# Altium schematic symbol library OXI_ONE.SchLib: 92 symbols (part 1 of 3)
Pins are listed as number, name and electrical type; pins without a type are passive.

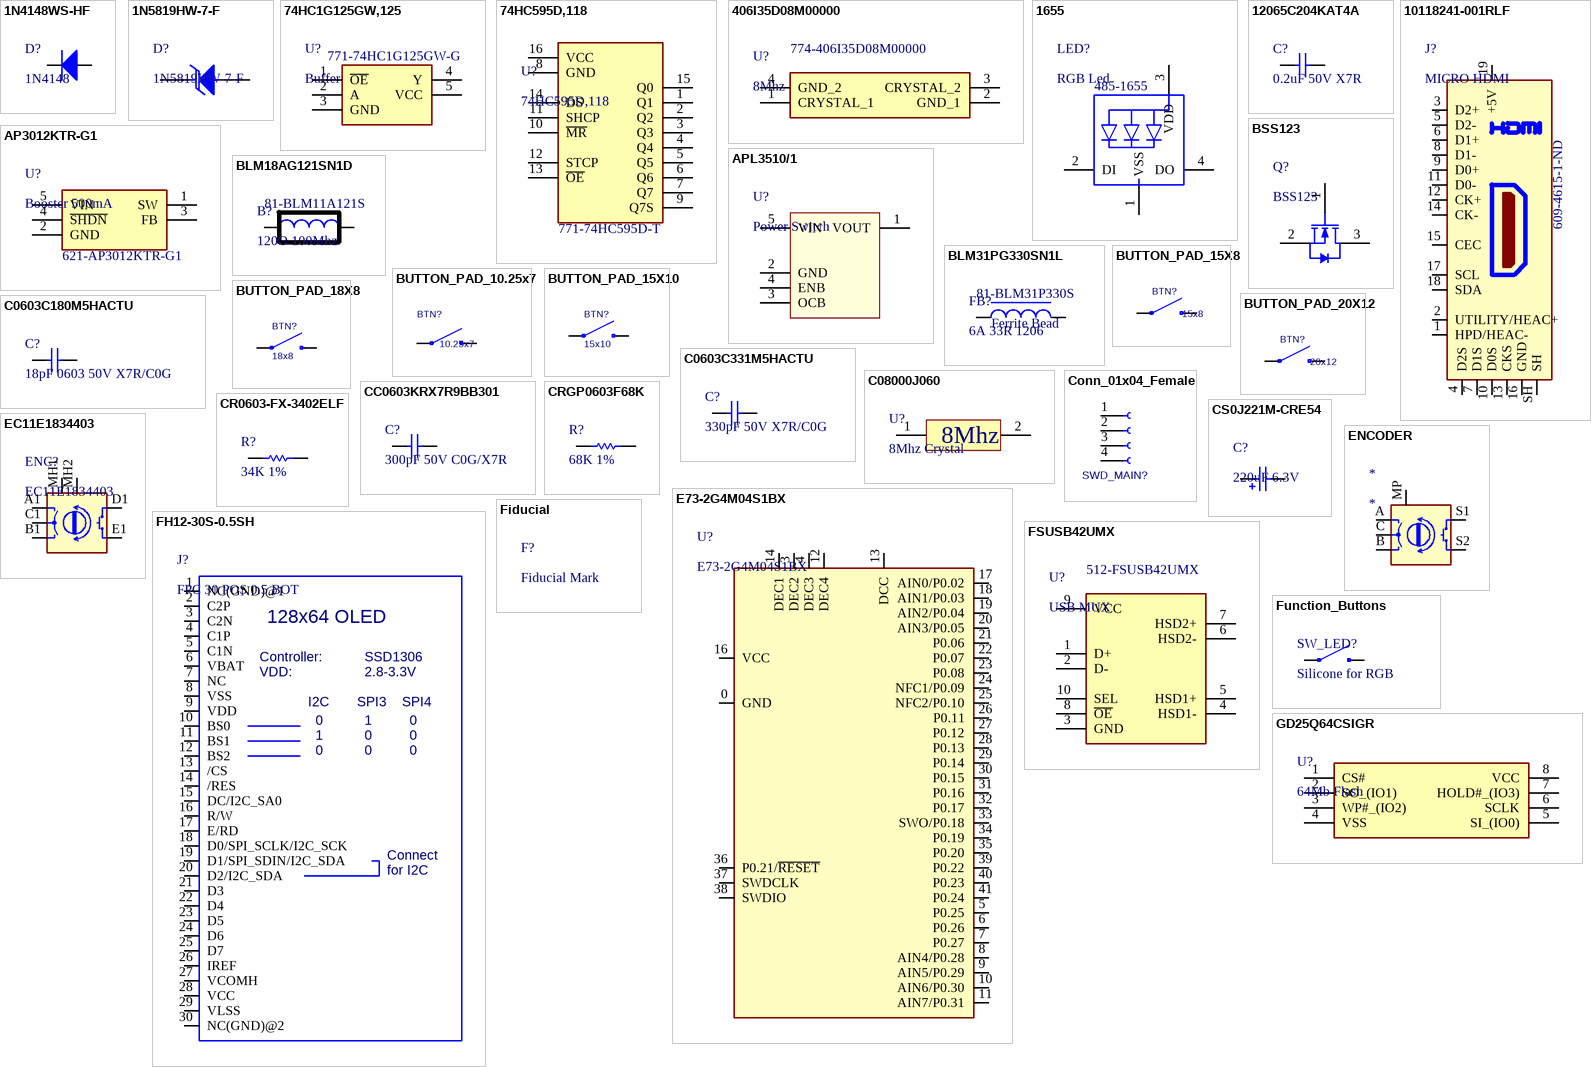
[diagram p0: symbols 1N4148WS-HF to GD25Q64CSIGR]

## 1N4148WS-HF
designator D?, comment 1N4148
Diodos: de propósito general, potencia y conmutación DIODE SWITCHING 100V 150mA 200mW SOD-323; Manufacturer: Comchip; Manufacturer Part Number: 1N4148WS-HF; Supplier 1: Mouser; RoHS: Yes; Stock 1: 4788; Pricing 1: 1=0,18000, 10=0,14900, 50=0,14900, 100=0,05700, 1000=0,03600, 10000=0,02300 (USD); Supplier Part Number 1: 750-1N4148WS-HF
footprint SOD2613X100N
pins: 1 K, 2 A

## 1N5819HW-7-F
designator D?
DIODES INC. - 1N5819HW-7-F - DIODE, SCKY RECTI, 1A, 40V, SOD123; Forward Voltage: 450mV; Max Reverse Current: 50uA; Element Configuration: Single; Max Forward Surge Current (Ifsm): 25A; Max Power Dissipation: 450mW; Polarity: Standard; Capacitance: 110pF; Supplier 1: Mouser; Manufacturer: Diodes; Manufacturer Part Number: 1N5819HW-7-F; RoHS: Yes; Category: Schottky Diodes; Case/Package: SOD-123-2; Number of Pins: 2; Weight: 0.000353oz; Contact Plating: Tin,Matte; Min Operating Temperature: -65°C; Max Operating Temperature: 125°C; Forward Current: 1A; Max Repetitive Reverse Voltage (Vrrm): 40V; Packaging: Tape and Reel; Peak Non-Repetitive Surge Current: 25A; Package Quantity: 3000; Average Rectified Current: 1A; Termination: SMD/SMT; Voltage Rating (DC): 40V; Current Rating: 1A; Output Current: 1A; Max Reverse Voltage (DC): 40V; Series: -; Length: 2.85mm; Width: 1.7mm; Height: 1.25mm; Radiation Hardening: No; RoHS Compliant: Yes; REACH SVHC: No SVHC; Lead Free: Lead Free; ComponentLink1URL: https://datasheet.ciiva.com/16303/ds30217-16303296.pdf?src-supplier=Future+Electronics; ComponentLink1Description: https://datasheet.ciiva.com/16303/ds30217-16303296.pdf?src-supplier=Future+Electronics; ComponentLink2URL: https://datasheet.ciiva.com/27092/1538419-27092484.pdf?src-supplier=Jameco; ComponentLink2Description: https://datasheet.ciiva.com/27092/1538419-27092484.pdf?src-supplier=Jameco; ComponentLink3URL: https://datasheet.ciiva.com/912/ds30217-912801.pdf?src-supplier=Digi-Key; ComponentLink3Description: https://datasheet.ciiva.com/912/ds30217-912801.pdf?src-supplier=Digi-Key; ComponentLink4URL: https://datasheet.ciiva.com/1177/ds30217-1177089.pdf?src-supplier=Element14; ComponentLink4Description: https://datasheet.ciiva.com/1177/ds30217-1177089.pdf?src-supplier=Element14; ComponentLink5URL: https://datasheet.ciiva.com/912/ds30217-912802.pdf?src-supplier=Digi-Key; ComponentLink5Description: https://datasheet.ciiva.com/912/ds30217-912802.pdf?src-supplier=Digi-Key; ComponentLink6URL: https://datasheet.ciiva.com/912/ds30217-912803.pdf?src-supplier=Digi-Key; ComponentLink6Description: https://datasheet.ciiva.com/912/ds30217-912803.pdf?src-supplier=Digi-Key; ComponentLink7URL: https://datasheet.ciiva.com/8303/ds30217-8303132.pdf?src-supplier=Avnet; ComponentLink7Description: https://datasheet.ciiva.com/8303/ds30217-8303132.pdf?src-supplier=Avnet; ComponentLink8URL: https://datasheet.ciiva.com/25919/ds30217-25919644.pdf?src-supplier=Avnet+Europe; ComponentLink8Description: https://datasheet.ciiva.com/25919/ds30217-25919644.pdf?src-supplier=Avnet+Europe; Supplier Part Number 1: 621-1N5819HW-F
footprint SOD3716X145N
pins: 1 K, 2 A

## 74HC1G125GW,125
designator U?, comment Buffer  Supplier Part Number 1: 771-74HC1G125GW-G
NEXPERIA - 74HC1G125GW,125 - BUFFER/DRIV, SINGLE, TRI-STATE, TSSOP-5; Supplier 1: Mouser; Manufacturer: Nexperia; Manufacturer Part Number: 74HC1G125GW,125; RoHS: Yes; Category: Logic Gates; ComponentLink1URL: http://www.farnell.com/datasheets/1245564.pdf?src-supplier=Farnell; ComponentLink1Description: http://www.farnell.com/datasheets/1245564.pdf?src-supplier=Farnell; ComponentLink2URL: https://assets.nexperia.com/documents/data-sheet/74HC_HCT1G125.pdf?src-supplier=Digi-Key; ComponentLink2Description: https://assets.nexperia.com/documents/data-sheet/74HC_HCT1G125.pdf?src-supplier=Digi-Key
footprint SOT95P275X110-5N
pins: 1 ~{OE}, 2 A, 3 GND, 4 Y, 5 VCC

## 74HC595D,118
designator U?  Supplier Part Number 1: 771-74HC595D-T
74HC Series 6 V 3-State Surface Mount Shift Register - SOIC-16; Manufacturer: Nexperia USA; Supplier 1: Mouser; Manufacturer Part Number: 74HC595D,118; RoHS: No; Category: Shift Registers; Stock 1: 146; ComponentLink1URL: https://assets.nexperia.com/documents/data-sheet/74HC_HCT595.pdf?src-supplier=Digi-Key; ComponentLink1Description: https://assets.nexperia.com/documents/data-sheet/74HC_HCT595.pdf?src-supplier=Digi-Key
footprint SOIC127P600X175-16N
pins: 1 Q1, 2 Q2, 3 Q3, 4 Q4, 5 Q5, 6 Q6, 7 Q7, 8 GND, 9 Q7S, 10 ~{MR}, 11 SHCP, 12 STCP, 13 ~{OE}, 14 DS, 15 Q0, 16 VCC

## 406I35D08M00000
designator U?, comment 8Mhz  Supplier Part Number 1: 774-406I35D08M00000
CRYSTAL 8.0MHZ 18PF SMD; Manufacturer: CTS; Manufacturer Part Number: 406I35D08M00000; Frequency Tolerance: 30ppm; ESR (Equivalent Series Resistance): 80R; Frequency Stability: 50ppm; Supplier 1: Mouser; RoHS: Yes; Category: Crystals; Stock 1: 4563; Pricing 1: 1=0,91000, 10=0,75700, 50=0,75700, 100=0,67000, 1000=0,50200, 10000=0,45200 (USD); Mount: Surface Mount; Case/Package: SMD/SMT; Min Operating Temperature: -40°C; Max Operating Temperature: 85°C; Package Quantity: 1000; Packaging: Tape and Reel; Frequency: 8MHz; Load Capacitance: 18pF; Tolerance: 30ppm; Termination: SMD/SMT; Length: 0.236inch; Width: 0.138inch; Height: 0.047inch; Lead Free: Lead Free; ComponentLink1URL: https://datasheet.ciiva.com/29631/008-0260-0-29631071.pdf?src-supplier=Digi-Key; ComponentLink1Description: https://datasheet.ciiva.com/29631/008-0260-0-29631071.pdf?src-supplier=Digi-Key; ComponentLink2URL: https://datasheet.ciiva.com/4945/008-0260-0-318470-4945111.pdf?src-supplier=Mouser; ComponentLink2Description: https://datasheet.ciiva.com/4945/008-0260-0-318470-4945111.pdf?src-supplier=Mouser
footprint 406C35B44M54500
pins: 1 CRYSTAL_1, 2 GND_1, 3 CRYSTAL_2, 4 GND_2

## 1655
designator LED?, comment RGB Led  Supplier Part Number 1: 485-1655
WS2812B 5050 RGB LED WITH INTEGRATED DRIVER CHIP PACK OF 10; Manufacturer: Adafruit Industries; Manufacturer Part Number: 1655; Color: Blue,Green,Red; Number of LEDs: 10; Supplier 1: Mouser; RoHS: Yes; Category: LEDs; Stock 1: 652; Mount: Surface Mount; Length: 5mm; Width: 5mm; ComponentLink1URL: http://www.mouser.com/ds/2/737/SK6812_LED_datasheet_-953546.pdf?src-supplier=Mouser; ComponentLink1Description: http://www.mouser.com/ds/2/737/SK6812_LED_datasheet_-953546.pdf?src-supplier=Mouser; ComponentLink2URL: https://cdn-shop.adafruit.com/product-files/1138/SK6812+LED+datasheet+.pdf?src-supplier=Digi-Key; ComponentLink2Description: https://cdn-shop.adafruit.com/product-files/1138/SK6812+LED+datasheet+.pdf?src-supplier=Digi-Key
footprint WB2812_5050
pins: 1 VSS, 2 DI, 3 VDD, 4 DO

## 12065C204KAT4A
designator C?, comment 0.2uF 50V X7R
Cap Ceramic 0.2uF 50V X7R 10% SMD 1206 125C T/R; Manufacturer: Kyocera AVX; Manufacturer Part Number: 12065C204KAT4A; Capacitance: 200nF; Supplier 1: Mouser; RoHS: Yes; Category: Ceramic Capacitors; Stock 1: 22100; Pricing 1: 1=0,50000, 10=0,34600, 50=0,34600, 100=0,20800, 1000=0,13200, 10000=0,09400 (USD); Mount: Surface Mount; Case/Package: 1206; Number of Pins: 2; Case Code (Metric): 3216; Case Code (Imperial): 1206; Min Operating Temperature: -55°C; Max Operating Temperature: 125°C; Tolerance: 10%; Voltage Rating: 50V; Packaging: Tape and Reel; Package Quantity: 15000; Dielectric: X7R; Termination: SMD/SMT; Voltage Rating (DC): 50V; Series: -; Construction: Flat; Length: 3.2mm; Width: 0.063inch; Thickness: 0.037inch; Depth: 1.6mm; Radiation Hardening: No; REACH SVHC: Unknown; RoHS Compliant: Yes; ComponentLink1URL: https://datasheet.ciiva.com/209/cx7r-209379.pdf?src-supplier=Digi-Key; ComponentLink1Description: https://datasheet.ciiva.com/209/cx7r-209379.pdf?src-supplier=Digi-Key; Supplier Part Number 1: 581-12065C204KAT4A
footprint C 1206/3216
pins: 1 P, 2 N

## 10118241-001RLF
designator J?, comment MICRO HDMI  Supplier Part Number 1: 609-4615-1-ND
Conn HDMI RCP 19 POS 0.4mm Solder RA SMD 19 Terminal 1 Port T/R; Manufacturer: Amphenol ICC / FCI; Manufacturer Part Number: 10118241-001RLF; Number of Terminals/Pins: 19; Gender: Receptacle; Number of Ports: 1; Voltage Rating: 40V; Insulation Resistance: 100MR; Supplier 1: Digi-Key; RoHS: Yes; Category: Connectors; Stock 1: 3366; Pricing 1: 1=1,37000, 10=1,24200, 25=1,16560, 50=1,11500, 100=1,06430, 250=0,96296 (USD); Mount: Surface Mount,Horizontal; Contact Material: Copper Alloy,Copper; Contact Plating: Gold; Color: Black; Housing Material: Polymer; Min Operating Temperature: -40°C; Max Operating Temperature: 85°C; Orientation: Right Angle; Packaging: Tape and Reel; Package Quantity: 800; Connector Type: HDMI; Number of Contacts: 19; Number of Positions: 19; Termination: Solder; Max Voltage Rating (DC): 40V; Features: Shielded; Series: -; Length: 8.9mm; Pitch: 0.4mm; Depth: 7.5mm; Radiation Hardening: No; Lead Free: Lead Free; REACH SVHC: No SVHC; ComponentLink1URL: https://datasheet.ciiva.com/1095/10118241-1095058.pdf?src-supplier=Element14; ComponentLink1Description: https://datasheet.ciiva.com/1095/10118241-1095058.pdf?src-supplier=Element14; ComponentLink2URL: https://datasheet.ciiva.com/851/10118241-851180.pdf?src-supplier=Digi-Key; ComponentLink2Description: https://datasheet.ciiva.com/851/10118241-851180.pdf?src-supplier=Digi-Key; ComponentLink3URL: https://datasheet.ciiva.com/851/10118241-851179.pdf?src-supplier=Digi-Key; ComponentLink3Description: https://datasheet.ciiva.com/851/10118241-851179.pdf?src-supplier=Digi-Key; ComponentLink4URL: https://datasheet.ciiva.com/851/10118241-851181.pdf?src-supplier=Digi-Key; ComponentLink4Description: https://datasheet.ciiva.com/851/10118241-851181.pdf?src-supplier=Digi-Key
footprint 10118241001RLF
pins: 1 HPD/HEAC-, 2 UTILITY/HEAC+, 3 D2+, 4 D2S, 5 D2-, 6 D1+, 7 D1S, 8 D1-, 9 D0+, 10 D0S, 11 D0-, 12 CK+, 13 CKS, 14 CK-, 15 CEC, 16 GND, 17 SCL, 18 SDA, 19 +5V, SH

## AP3012KTR-G1
designator U?, comment Booster 500mA  Supplier Part Number 1: 621-AP3012KTR-G1
IC REG BOOST ADJ 0.5A SOT25; Manufacturer: Diodes; Manufacturer Part Number: AP3012KTR-G1; Number of Outputs: 1; Min Input Voltage: 2.6V; Max Input Voltage: 16V; Min Output Voltage: 1.25V; Switching Frequency: 1.5MHz; Synchronous Rectifier: No; Output Voltage: 29V; Output Type: Adjustable; Output Configuration: Positive; Efficiency: 85%; Operating Supply Current: 100nA; Min Supply Voltage: 1V; Supplier 1: Mouser; RoHS: Yes; Category: Power Supply Modules; Stock 1: 26392; Mount: Surface Mount; Case/Package: SOT-23-5; Number of Pins: 5; Weight: 0.001058oz; Min Operating Temperature: -40°C; Max Operating Temperature: 85°C; Packaging: Tape and Reel; Package Quantity: 3000; Output Current: 500mA; Max Output Current: 500mA; Max Output Voltage: 29V; Topology: Boost; Operating Supply Voltage: 16V; Lead Free: Lead Free; RoHS Compliant: Yes; ComponentLink1URL: https://datasheet.ciiva.com/29885/ap3012-29885792.pdf?src-supplier=Avnet; ComponentLink1Description: https://datasheet.ciiva.com/29885/ap3012-29885792.pdf?src-supplier=Avnet; ComponentLink2URL: https://datasheet.ciiva.com/29735/ap3012-29735077.pdf?src-supplier=Digi-Key; ComponentLink2Description: https://datasheet.ciiva.com/29735/ap3012-29735077.pdf?src-supplier=Digi-Key; ComponentLink3URL: https://datasheet.ciiva.com/29735/ap3012-29735068.pdf?src-supplier=Digi-Key; ComponentLink3Description: https://datasheet.ciiva.com/29735/ap3012-29735068.pdf?src-supplier=Digi-Key
footprint SOT95P280X145-5N
pins: 1 SW, 2 GND (power), 3 FB, 4 ~{SHDN}, 5 VIN (power)

## APL3510/1
designator U?, comment Power Switch
SOT-23-5 Power Distribution Switches RoHS; Manufacturer Part Number: C368544
footprint SOT-23-5 (SOT23, 3-Leads, Body 2.92x1.3mm, Pitch 0.95mm)
pins: 1 VOUT, 2 GND, 3 OCB, 4 ENB, 5 VIN

## BLM18AG121SN1D
designator B?, comment 120O 100Mhz  Supplier Part Number 1: 81-BLM11A121S
Ferrite Beads Multi-Layer 120Ohm 25% 100MHz 500mA 180mOhm DCR 0603 T/R; Manufacturer: Murata; Manufacturer Part Number: BLM18AG121SN1D; Impedance: 120R; DC Resistance (DCR): 180mR; Number of Lines: 1; Shielding: Unshielded; Supplier 1: Mouser; RoHS: Yes; Category: Inductors; Stock 1: 63424; Pricing 1: 1=0,10000, 10=0,06400, 50=0,06400, 100=0,03400, 1000=0,03100, 4000=0,02400, 10000=0,02400 (USD); Case/Package: 0603; Number of Pins: 2; Core Material: Ferrite; Case Code (Metric): 1608; Case Code (Imperial): 0603; Material: Steel,Ferrite; Min Operating Temperature: -55°C; Max Operating Temperature: 125°C; Tolerance: 25%; Max DC Current: 500mA; Package Quantity: 1; Max Current Rating: 500mA; Packaging: Tape and Reel; Current Rating: 500mA; Termination: SMD/SMT; Test Frequency: 100MHz; DC Current: 500mA; Frequency: 100MHz; Number of Circuits: 1; Series: BLM18A; DC Resistance-Max: 180mR; Length: 1.6mm; Width: 0.8mm; Height: 0.8mm; Depth: 0.8mm; Radiation Hardening: No; REACH SVHC: No SVHC; Military Standard: Not; Lead Free: Lead Free; RoHS Compliant: Yes; ComponentLink1URL: https://datasheet.ciiva.com/11795/0900766b811b5866-11795382.pdf?src-supplier=RSComponents; ComponentLink1Description: https://datasheet.ciiva.com/11795/0900766b811b5866-11795382.pdf?src-supplier=RSComponents; ComponentLink2URL: https://datasheet.ciiva.com/19460/1844723-19460204.pdf?src-supplier=Jameco; ComponentLink2Description: https://datasheet.ciiva.com/19460/1844723-19460204.pdf?src-supplier=Jameco; ComponentLink3URL: https://datasheet.ciiva.com/29347/442268-da-01-en-chip-drossel-0603-120r-500ma-1-6x0-8mm-29347890.pdf?src-supplier=Conrad; ComponentLink3Description: https://datasheet.ciiva.com/29347/442268-da-01-en-chip-drossel-0603-120r-500ma-1-6x0-8mm-29347890.pdf?src-supplier=Conrad; ComponentLink4URL: https://datasheet.ciiva.com/41449/001172222-da-01-en-drossel-0603-120r-1-6x0-8mm-4000st-41449509.pdf?src-supplier=Conrad; ComponentLink4Description: https://datasheet.ciiva.com/41449/001172222-da-01-en-drossel-0603-120r-1-6x0-8mm-4000st-41449509.pdf?src-supplier=Conrad; ComponentLink5URL: https://datasheet.ciiva.com/14122/blm-series-eng-tds-14122902.pdf?src-supplier=Distrelec; ComponentLink5Description: https://datasheet.ciiva.com/14122/blm-series-eng-tds-14122902.pdf?src-supplier=Distrelec; ComponentLink6URL: https://datasheet.ciiva.com/17246/l0110s0100blm18a-17246919.pdf?src-supplier=Avnet+Europe; ComponentLink6Description: https://datasheet.ciiva.com/17246/l0110s0100blm18a-17246919.pdf?src-supplier=Avnet+Europe; ComponentLink7URL: https://datasheet.ciiva.com/3081/l0110s0100blm18a-3081610.pdf?src-supplier=Avnet; ComponentLink7Description: https://datasheet.ciiva.com/3081/l0110s0100blm18a-3081610.pdf?src-supplier=Avnet; ComponentLink8URL: https://datasheet.ciiva.com/1012/l0110s0100blm18a-1012011.pdf?src-supplier=Digi-Key; ComponentLink8Description: https://datasheet.ciiva.com/1012/l0110s0100blm18a-1012011.pdf?src-supplier=Digi-Key; ComponentLink9URL: https://datasheet.ciiva.com/1012/l0110s0100blm18a-1012012.pdf?src-supplier=Digi-Key; ComponentLink9Description: https://datasheet.ciiva.com/1012/l0110s0100blm18a-1012012.pdf?src-supplier=Digi-Key; ComponentLink10URL: https://datasheet.ciiva.com/8510/l0110s0100blm18a-8510156.pdf?src-supplier=Avnet; ComponentLink10Description: https://datasheet.ciiva.com/8510/l0110s0100blm18a-8510156.pdf?src-supplier=Avnet; ComponentLink11URL: https://datasheet.ciiva.com/1012/l0110s0100blm18a-1012013.pdf?src-supplier=Digi-Key; ComponentLink11Description: https://datasheet.ciiva.com/1012/l0110s0100blm18a-1012013.pdf?src-supplier=Digi-Key; ComponentLink12URL: https://datasheet.ciiva.com/16215/l0110s0100blm18a-16215230.pdf?src-supplier=Future+Electronics; ComponentLink12Description: https://datasheet.ciiva.com/16215/l0110s0100blm18a-16215230.pdf?src-supplier=Future+Electronics
footprint Bead 0603
pins: 1, 2

## BLM31PG330SN1L
designator FB?, comment 6A 33R 1206  Supplier Part Number 1: 81-BLM31P330S
MURATA - BLM31PG330SN1L - Koralik ferrytowy, 1206 [jedn. metryczne: 3216], 33 ohm, 6 A, EMIFIL BLM31P Series, 0.009 ohm; Material: Steel,Ferrite; Tolerance: 25%; Number of Lines: 1; DC Resistance (DCR): 9mR; Test Frequency: 100MHz; Shielding: Unshielded; Supplier 1: Mouser; Manufacturer: Murata; Manufacturer Part Number: BLM31PG330SN1L; RoHS: Yes; Category: Ferrite Beads and Chips; Stock 1: 25998; Case/Package: 1206; Number of Pins: 2; Case Code (Metric): 3216; Case Code (Imperial): 1206; Contact Plating: Tin,Matte; Min Operating Temperature: -55°C; Max Operating Temperature: 125°C; Max Current Rating: 6A; Termination: Flat; Impedance: 33R; Package Quantity: 1; Packaging: Tape and Reel; Current Rating: 6A; Max DC Current: 6A; Series: BLM31P; DC Resistance-Max: 9mR; Length: 3.2mm; Width: 1.6mm; Height: 1.1mm; Depth: 1.6mm; Lead Free: Lead Free; RoHS Compliant: Yes; ComponentLink1URL: https://datasheet.ciiva.com/11799/0900766b811b5866-11799415.pdf?src-supplier=RSComponents; ComponentLink1Description: https://datasheet.ciiva.com/11799/0900766b811b5866-11799415.pdf?src-supplier=RSComponents; ComponentLink2URL: https://datasheet.ciiva.com/41449/001172384-da-01-en-drossel-1206-33r0-3-2x1-60mm-3000st-41449553.pdf?src-supplier=Conrad; ComponentLink2Description: https://datasheet.ciiva.com/41449/001172384-da-01-en-drossel-1206-33r0-3-2x1-60mm-3000st-41449553.pdf?src-supplier=Conrad; ComponentLink3URL: https://datasheet.ciiva.com/41449/001171745-da-01-en-chip-drossel1206-33r0-6000ma-3-2x1-60mm-41449400.pdf?src-supplier=Conrad; ComponentLink3Description: https://datasheet.ciiva.com/41449/001171745-da-01-en-chip-drossel1206-33r0-6000ma-3-2x1-60mm-41449400.pdf?src-supplier=Conrad; ComponentLink4URL: https://datasheet.ciiva.com/6211/l0110s0100blm31p-6211896.pdf?src-supplier=Digi-Key; ComponentLink4Description: https://datasheet.ciiva.com/6211/l0110s0100blm31p-6211896.pdf?src-supplier=Digi-Key; ComponentLink5URL: https://datasheet.ciiva.com/14122/apblm31p-data-e-14122216.pdf?src-supplier=Distrelec; ComponentLink5Description: https://datasheet.ciiva.com/14122/apblm31p-data-e-14122216.pdf?src-supplier=Distrelec; ComponentLink6URL: https://datasheet.ciiva.com/6211/l0110s0100blm31p-6211899.pdf?src-supplier=Digi-Key; ComponentLink6Description: https://datasheet.ciiva.com/6211/l0110s0100blm31p-6211899.pdf?src-supplier=Digi-Key; ComponentLink7URL: https://datasheet.ciiva.com/16205/l0110s0100blm31p-16205563.pdf?src-supplier=Future+Electronics; ComponentLink7Description: https://datasheet.ciiva.com/16205/l0110s0100blm31p-16205563.pdf?src-supplier=Future+Electronics; ComponentLink8URL: https://datasheet.ciiva.com/6211/l0110s0100blm31p-6211900.pdf?src-supplier=Digi-Key; ComponentLink8Description: https://datasheet.ciiva.com/6211/l0110s0100blm31p-6211900.pdf?src-supplier=Digi-Key; ComponentLink9URL: https://datasheet.ciiva.com/3067/c31e-3067133.pdf?src-supplier=Avnet; ComponentLink9Description: https://datasheet.ciiva.com/3067/c31e-3067133.pdf?src-supplier=Avnet; ComponentLink10URL: https://datasheet.ciiva.com/3067/c31e-3067134.pdf?src-supplier=Avnet; ComponentLink10Description: https://datasheet.ciiva.com/3067/c31e-3067134.pdf?src-supplier=Avnet; ComponentLink11URL: https://datasheet.ciiva.com/16552/c31e-16552158.pdf?src-supplier=Avnet+Europe; ComponentLink11Description: https://datasheet.ciiva.com/16552/c31e-16552158.pdf?src-supplier=Avnet+Europe
footprint R 1206/3216
pins: 1, 2
text: Ferrite Bead

## BSS123
designator Q?
Trans MOSFET N-CH 100V 0.17A 3-Pin SOT-23 T/R; Manufacturer: ON Semiconductor / Fairchild; Continuous Drain Current (ID): 170mA; Input Capacitance: 73pF; Max Power Dissipation: 360mW; Rds On Max: 6R; Gate to Source Voltage (Vgs): 20V; Turn-Off Delay Time: 17ns; Element Configuration: Single; Turn-On Delay Time: 1.7ns; Rise Time: 9ns; Number of Elements: 1; Nominal Vgs: 1.7V; Supplier 1: LCSC; Manufacturer Part Number: BSS123; RoHS: Yes; Category: MOSFETs; Stock 1: 2640; Pricing 1: 10=0,05780, 100=0,04420, 300=0,04160, 1000=0,03910, 5000=0,03800, 10000=0,03750, 10=0,05580, 100=0,04270, 300=0,04020, 1000=0,03780, 5000=0,03670, 10000=0,03620, 10=0,29190, 100=0,22310, 300=0,21020, 1000=0,19790, 5000=0,19200, 10000=0,18940, 10=0,27720, 100=0,21190, 300=0,19960, 1000=0,18780, 5000=0,18230, 10000=0,17980, 10=0,03730, 100=0,02850, 300=0,02680, 1000=0,02530, 5000=0,02450, 10000=0,02420, 10=0,03240, 100=0,02480, 300=0,02330, 1000=0,02200, 5000=0,02130, 10000=0,02100, 10=0,34930, 100=0,26700, 300=0,25150, 1000=0,23670, 5000=0,22970, 10000=0,22660, 10=4,87280, 100=3,72500, 300=3,50840, 1000=3,30270, 5000=3,20520, 10000=3,16190, 10=0,18450, 100=0,14100, 300=0,13280, 1000=0,12500, 5000=0,12130, 10000=0,11970, 10=3,37420, 100=2,57940, 300=2,42940, 1000=2,28700, 5000=2,21950, 10000=2,18950, 10=0,37740, 100=0,28850, 300=0,27170, 1000=0,25580, 5000=0,24830, 10000=0,24490, 10=0,05970, 100=0,04560, 300=0,04300, 1000=0,04050, 5000=0,03930, 10000=0,03870, 10=0,04500, 100=0,03440, 300=0,03240, 1000=0,03050, 5000=0,02960, 10000=0,02920 (AUD); Mount: Surface Mount; Case/Package: SOT-23; Number of Pins: 3; Contact Plating: Tin,Matte; Min Operating Temperature: -55°C; Max Operating Temperature: 150°C; Packaging: Tape and Reel; Drain to Source Voltage (Vdss): 100V; Power Dissipation: 360mW; Drain to Source Resistance: 6R; Package Quantity: 1; Fall Time: 9ns; Drain to Source Breakdown Voltage: 100V; Voltage Rating (DC): 100V; Current Rating: 170mA; Threshold Voltage: 1.7V; On-State Resistance: 6R; Voltage: 100V; Dual Supply Voltage: 100V; Length: 2.92mm; Width: 1.3mm; Height: 0.93mm; Radiation Hardening: No; RoHS Compliant: Yes; Lead Free: Lead Free; REACH SVHC: No SVHC; ComponentLink1URL: https://datasheet.ciiva.com/4441/bss123-90724-4441226.pdf?src-supplier=Mouser; ComponentLink1Description: https://datasheet.ciiva.com/4441/bss123-90724-4441226.pdf?src-supplier=Mouser; ComponentLink2URL: https://datasheet.ciiva.com/27050/870161-27050553.pdf?src-supplier=Jameco; ComponentLink2Description: https://datasheet.ciiva.com/27050/870161-27050553.pdf?src-supplier=Jameco; ComponentLink3URL: https://datasheet.ciiva.com/5836/276131-5836616.pdf?src-supplier=Farnell; ComponentLink3Description: https://datasheet.ciiva.com/5836/276131-5836616.pdf?src-supplier=Farnell; ComponentLink4URL: https://datasheet.ciiva.com/3304/bss123-3304416.pdf?src-supplier=Avnet; ComponentLink4Description: https://datasheet.ciiva.com/3304/bss123-3304416.pdf?src-supplier=Avnet; ComponentLink5URL: https://datasheet.ciiva.com/15137/getdatasheetpartid-58830-15137228.pdf?src-supplier=Verical; ComponentLink5Description: https://datasheet.ciiva.com/15137/getdatasheetpartid-58830-15137228.pdf?src-supplier=Verical; ComponentLink6URL: https://datasheet.ciiva.com/7643/276131-7643050.pdf?src-supplier=Element14; ComponentLink6Description: https://datasheet.ciiva.com/7643/276131-7643050.pdf?src-supplier=Element14; ComponentLink7URL: https://datasheet.ciiva.com/1190/276131-1190075.pdf?src-supplier=Element14; ComponentLink7Description: https://datasheet.ciiva.com/1190/276131-1190075.pdf?src-supplier=Element14; ComponentLink8URL: https://datasheet.ciiva.com/17170/bss123-17170795.pdf?src-supplier=Future+Electronics; ComponentLink8Description: https://datasheet.ciiva.com/17170/bss123-17170795.pdf?src-supplier=Future+Electronics; ComponentLink9URL: https://datasheet.ciiva.com/16465/bss123-16465671.pdf?src-supplier=Avnet+Asia; ComponentLink9Description: https://datasheet.ciiva.com/16465/bss123-16465671.pdf?src-supplier=Avnet+Asia; ComponentLink10URL: https://datasheet.ciiva.com/931/bss123-931781.pdf?src-supplier=Digi-Key; ComponentLink10Description: https://datasheet.ciiva.com/931/bss123-931781.pdf?src-supplier=Digi-Key; ComponentLink11URL: https://datasheet.ciiva.com/931/bss123-931782.pdf?src-supplier=Digi-Key; ComponentLink11Description: https://datasheet.ciiva.com/931/bss123-931782.pdf?src-supplier=Digi-Key; ComponentLink12URL: https://datasheet.ciiva.com/931/bss123-931780.pdf?src-supplier=Digi-Key; ComponentLink12Description: https://datasheet.ciiva.com/931/bss123-931780.pdf?src-supplier=Digi-Key; Supplier Part Number 1: C513249
footprint SOT-23-3 (SOT23, 3-Leads, Body 2.92x1.3mm, Pitch 0.95mm)
pins: 1 G, 2 S, 3 D

## BUTTON_PAD_10.25x7
designator BTN?, comment 10.25x7  (no BOM)
Package: -; Ref. Other: -; LCSC Part: -; Footprint: Melomaker PCB 8.3:ELAST_11x7_solid; Value: 10.25x7
footprint ELAST_11x7_solid
pins: 1 P$1, 2 P$2

## BUTTON_PAD_15X8
designator BTN?, comment 15x8  (no BOM)
LCSC Part: -; Package: -; Ref. Other: -; Footprint: Melomaker PCB 8.3:ELAST_16x8_Solid; Value: 15x8
footprint ELAST_16x8_Solid
pins: 1 P$1, 2 P$2

## BUTTON_PAD_15X10
designator BTN?, comment 15x10  (no BOM)
LCSC Part: -; Package: -; Ref. Other: -; Footprint: Melomaker PCB 8.3:ELAST_17x10_Solid; Value: 15x10
footprint ELAST_17x10_Solid
pins: 1 P$1, 2 P$2

## BUTTON_PAD_18X8
designator BTN?, comment 18x8  (no BOM)
Package: -; Ref. Other: -; LCSC Part: -; Footprint: Melomaker PCB 8.3:ELAST_17x10_Solid; Value: 18x8
footprint ELAST_17x10_Solid
pins: 1 P$1, 2 P$2

## BUTTON_PAD_20X12
designator BTN?, comment 20x12  (no BOM)
LCSC Part: -; Package: -; Ref. Other: -; Footprint: Melomaker PCB 8.3:ELAST_18x12; Value: 20x12
footprint ELAST_18x12
pins: 1 P$1, 2 P$2

## C0603C180M5HACTU
designator C?, comment 18pF 0603 50V X7R/C0G
Condensadores de cerámica multicapa (MLCC- SMD/SMT) 50V 18pF X8R 0603 20 %; Manufacturer: KEMET; Manufacturer Part Number: C0603C180M5HACTU; Supplier 1: Mouser; RoHS: Yes; Category: Ceramic Capacitors; Stock 1: 26351; Pricing 1: 1=0,10000, 10=0,04100, 50=0,04100, 100=0,01800, 1000=0,01000, 10000=0,00800 (USD); RoHS Compliant: Yes; Supplier Part Number 1: 80-C0603C180M5HACTU
footprint C 0603/1608
pins: 1, 2

## C0603C331M5HACTU
designator C?, comment 330pF 50V X7R/C0G
Condensadores de cerámica multicapa (MLCC- SMD/SMT) 50V 330pF X8R 0603 2 0%; Manufacturer: KEMET; Manufacturer Part Number: C0603C331M5HACTU; Supplier 1: Mouser; RoHS: Yes; Category: Ceramic Capacitors; Stock 1: 12406; Pricing 1: 1=0,10000, 10=0,04400, 50=0,04400, 100=0,01900, 1000=0,01100, 10000=0,00900 (USD); RoHS Compliant: Yes; Supplier Part Number 1: 80-C0603C331M5HACTU
footprint C 0603/1608
pins: 1, 2

## C08000J060
designator U?, comment 8Mhz Crystal
8MHz ±20ppm 20pF 40Ω HC-49SMD Crystals RoHS; Manufacturer Part Number: C08000J060; Supplier 1: LCSC
footprint Crystal_SMD_HC49-SD
pins: 1, 2
text: 8Mhz

## CC0603KRX7R9BB301
designator C?, comment 300pF 50V C0G/X7R
0603 300 pF 50 V ±10 % Tolerance X7R SMT Multilayer Ceramic Capacitor; Manufacturer: Yageo; Manufacturer Part Number: CC0603KRX7R9BB301; Tolerance: 10%; Supplier 1: Mouser; RoHS: Yes; Category: Ceramic Capacitors; Stock 1: 14016; Pricing 1: 1=0,12000, 10=0,07100, 50=0,07100, 100=0,03200, 1000=0,01900, 10000=0,01300 (USD); Mount: Surface Mount; Case/Package: 0603; Case Code (Imperial): 0603; Case Code (Metric): 1608; Weight: 7.1E-05oz; Min Operating Temperature: -55°C; Max Operating Temperature: 125°C; Capacitance: 300pF; Voltage Rating: 50V; Voltage Rating (DC): 50V; Packaging: Tape and Reel; Termination: SMD/SMT; Resistor Type: Ceramic; Dielectric: X7R; Length: 0.063inch; Width: 0.031inch; Thickness: 0.035inch; Lead Free: Lead Free; Halogen Free: Halogen Free; ComponentLink1URL: https://datasheet.ciiva.com/13208/upy-gphc-x7r-6-3v-to-50v-8-12304-13208029.pdf?src-supplier=Mouser; ComponentLink1Description: https://datasheet.ciiva.com/13208/upy-gphc-x7r-6-3v-to-50v-8-12304-13208029.pdf?src-supplier=Mouser; Supplier Part Number 1: 603-CC603KRX7R9BB301
footprint C 0603/1608
pins: 1, 2

## Conn_01x04_Female
designator SWD_MAIN?, comment SWD  (value not drawn)  (no BOM)
LCSC Part: -; Package: -; Ref. Other: -; Value: SWD; Footprint: Connector_PinHeader_2.54mm:PinHeader_1x04_P2.54mm_Vertical
footprint PinHeader_1x04_P2.54mm_Vertical
pins: 1 Pin_1, 2 Pin_2, 3 Pin_3, 4 Pin_4

## CR0603-FX-3402ELF
designator R?, comment 34K 1%
Res Thick Film 0603 34K Ohm 1% 1/10W 100ppm/C Molded SMD SMD Paper Tape on Plastic Reel; Manufacturer: Bourns; Manufacturer Part Number: CR0603-FX-3402ELF; Resistance: 34kR; Power Rating: 100mW; Voltage Rating: 50V; Temperature Coefficient: 100ppm/°C; Supplier 1: Mouser; RoHS: Yes; Category: Chip SMD Resistors; Stock 1: 31516; Pricing 1: 1=0,10000, 10=0,03300, 50=0,03300, 100=0,01400, 1000=0,00700, 10000=0,00300 (USD); Mount: Surface Mount; Case/Package: 0603; Case Code (Imperial): 0603; Case Code (Metric): 1608; Contact Plating: Tin; Min Operating Temperature: -55°C; Max Operating Temperature: 155°C; Packaging: Tape and Reel; Tolerance: 1%; Package Quantity: 5000; Resistor Type: Thick Film; Termination: SMD/SMT; Series: CR0603; Length: 1.6mm; Width: 0.8mm; Height: 0.45mm; Thickness: 457um; Radiation Hardening: No; RoHS Compliant: Yes; ComponentLink1URL: https://datasheet.ciiva.com/9121/chpreztr-9121535.pdf?src-supplier=Avnet; ComponentLink1Description: https://datasheet.ciiva.com/9121/chpreztr-9121535.pdf?src-supplier=Avnet; ComponentLink2URL: https://datasheet.ciiva.com/5590/chpreztr-5590152.pdf?src-supplier=Mouser; ComponentLink2Description: https://datasheet.ciiva.com/5590/chpreztr-5590152.pdf?src-supplier=Mouser; Supplier Part Number 1: 652-CR0603FX-3402ELF
footprint R 0603/1608
pins: 1, 2

## CRGP0603F68K
designator R?, comment 68K 1%
Pulse Withstand Resistor Thick Film 68kOhm 1% 0603 Paper T/R; Manufacturer: TE Connectivity; Manufacturer Part Number: CRGP0603F68K; Supplier 1: Mouser; RoHS: Yes; Category: Chip SMD Resistors; Stock 1: 9371; Pricing 1: 1=0,14000, 10=0,12500, 50=0,12500, 100=0,04900, 1000=0,01800, 10000=0,01400 (USD); RoHS Compliant: Yes; Supplier Part Number 1: 279-CRGP0603F68K
footprint R 0603/1608
pins: 1, 2

## CS0J221M-CRE54
designator C?, comment 220uF 6.3V
Compra LCSCS C96183
footprint CAPAE660X660N
pins: 1 P, 2 N

## E73-2G4M04S1BX
designator U?
SMD,23.5x17.5mm Bluetooth Modules RoHS; Manufacturer Part Number: C2764960
footprint E73-2G4M04S1BX
pins: 0 GND, 3 DEC2, 4 DEC3, 5 P0.25, 6 P0.26, 7 P0.27, 8 AIN4/P0.28, 9 AIN5/P0.29, 10 AIN6/P0.30, 11 AIN7/P0.31, 12 DEC4, 13 DCC, 14 DEC1, 16 VCC, 17 AIN0/P0.02, 18 AIN1/P0.03, 19 AIN2/P0.04, 20 AIN3/P0.05, 21 P0.06, 22 P0.07, 23 P0.08, 24 NFC1/P0.09, 25 NFC2/P0.10, 26 P0.11, 27 P0.12, 28 P0.13, 29 P0.14, 30 P0.15, 31 P0.16, 32 P0.17, 33 SWO/P0.18, 34 P0.19, 35 P0.20, 36 P0.21/~{RESET}, 37 SWDCLK, 38 SWDIO, 39 P0.22, 40 P0.23, 41 P0.24

## EC11E1834403
designator ENC?
ALPS   EC11E1834403   ENCODER, VERTICAL, 18PPR + SW; Manufacturer: Alps Electric; Number of Channels: 2; Max Supply Voltage: 5V; Pulses per Revolution: 18; Hole Diameter: 1.5mm; Supplier 1: LCSC; Manufacturer Part Number: EC11E1834403; RoHS: Yes; Category: Uncategorized; Mount: Through Hole; Case/Package: Metal; Number of Pins: 5; Min Operating Temperature: -40°C; Max Operating Temperature: 85°C; Packaging: Tray; Package Quantity: 1200; Termination: Through Hole; Series: EC11; REACH SVHC: Unknown; RoHS Compliant: Yes; ComponentLink1URL: https://datasheet.ciiva.com/11807/0900766b80f4c221-11807977.pdf?src-supplier=RSComponents; ComponentLink1Description: https://datasheet.ciiva.com/11807/0900766b80f4c221-11807977.pdf?src-supplier=RSComponents; Supplier Part Number 1: C361165
footprint EC11E183440C
pins: A1 A, B1 B, C1 C, D1 S1, E1 S2, MH1 SHIELD, MH2 SHIELD

## ENCODER
designator *
pins: A, B, C, MP SHIELD, S1, S2

## FH12-30S-0.5SH
designator J?, comment FPC 30 POS 0.5 BOT
CONN FFC BOTTOM 30POS 0.50MM R/A; Manufacturer: Hirose; Manufacturer Part Number: FH12-30S-0.5SH; Actuator Material: Polyphenylene; Current Rating: 500mA; Voltage Rating: 50V; Number of Positions: 30; Wire/Cable Type: Straight; Pitch: 0.02inch; Supplier 1: Digi-Key; RoHS: No; Category: Connectors; Mount: Surface Mount; Contact Material: Bronze; Housing Material: Nylon; Contact Plating: Tin,Lead; Housing Color: Brown; Min Operating Temperature: -40°C; Max Operating Temperature: 85°C; Termination: Solder; Package Quantity: 2000; Packaging: Tape and Reel; Number of Contacts: 30; Series: FH12; Flammability Rating: UL94 V-0; Lead Free: Contains Lead; RoHS Compliant: No; ComponentLink1URL: https://media.digikey.com/pdf/Data%20Sheets/Hirose%20PDFs/FH12.pdf?src-supplier=Digi-Key; ComponentLink1Description: https://media.digikey.com/pdf/Data%20Sheets/Hirose%20PDFs/FH12.pdf?src-supplier=Digi-Key; Supplier Part Number 1: HFJ30CT-ND
footprint FH12-30S-0.5SH
pins: 1 NC(GND)@1, 2 C2P, 3 C2N, 4 C1P, 5 C1N, 6 VBAT, 7 NC, 8 VSS, 9 VDD, 10 BS0, 11 BS1, 12 BS2, 13 /CS, 14 /RES, 15 DC/I2C_SA0, 16 R/W, 17 E/RD, 18 D0/SPI_SCLK/I2C_SCK, 19 D1/SPI_SDIN/I2C_SDA, 20 D2/I2C_SDA, 21 D3, 22 D4, 23 D5, 24 D6, 25 D7, 26 IREF, 27 VCOMH, 28 VCC, 29 VLSS, 30 NC(GND)@2
text: 128x64 OLED; Controller:; SSD1306; VDD:; 2.8-3.3V; I2C; SPI3; SPI4; 0; Connect; for I2C

## Fiducial
designator F?, comment Fiducial Mark
footprint Fiducial

## FSUSB42UMX
designator U?, comment USB MUX  Supplier Part Number 1: 512-FSUSB42UMX
IC USB SWITCH DPDT 10UMLP; Manufacturer: ON Semiconductor / Fairchild; Manufacturer Part Number: FSUSB42UMX; Number of Channels: 1; Min Supply Voltage: 3V; Max Supply Voltage: 4.3V; Nominal Supply Current: 1uA; On-State Resistance: 6.5R; Number of Inputs: 2; Data Rate: 480Mbps; Output Current: 100mA; Propagation Delay: 0.25ns; Bandwidth: 720MHz; Turn-Off Delay Time: 25ns; Turn-On Delay Time: 30ns; Supply Type: Single; Supplier 1: Mouser; RoHS: Yes; Category: Logic ICs; Stock 1: 7084; Pricing 1: 1=0,60000, 10=0,52700, 50=0,52700, 100=0,40400, 1000=0,25600, 10000=0,21800 (USD); Mount: Surface Mount; Number of Pins: 10; Weight: 18.08g; Min Operating Temperature: -40°C; Max Operating Temperature: 85°C; Package Quantity: 1; Number of Outputs: 2; Packaging: Tape and Reel; Operating Supply Voltage: 4.3V; Number of Ports: 2; Termination: SMD/SMT; Throw Configuration: DPDT; Series: -; Supply Current: 1uA; Length: 1.4mm; Width: 1.8mm; Height: 0.5mm; Radiation Hardening: No; REACH SVHC: No SVHC; Lead Free: Lead Free; RoHS Compliant: Yes; ComponentLink1URL: https://datasheet.ciiva.com/15108/getdatasheetpartid-189033-15108996.pdf?src-supplier=Verical; ComponentLink1Description: https://datasheet.ciiva.com/15108/getdatasheetpartid-189033-15108996.pdf?src-supplier=Verical; ComponentLink2URL: https://datasheet.ciiva.com/1504/1815547-1504946.pdf?src-supplier=Element14; ComponentLink2Description: https://datasheet.ciiva.com/1504/1815547-1504946.pdf?src-supplier=Element14; ComponentLink3URL: https://datasheet.ciiva.com/26074/fsusb42-26074741.pdf?src-supplier=Avnet+Europe; ComponentLink3Description: https://datasheet.ciiva.com/26074/fsusb42-26074741.pdf?src-supplier=Avnet+Europe; ComponentLink4URL: https://datasheet.ciiva.com/1561/fsusb42-1561415.pdf?src-supplier=Farnell; ComponentLink4Description: https://datasheet.ciiva.com/1561/fsusb42-1561415.pdf?src-supplier=Farnell; ComponentLink5URL: https://datasheet.ciiva.com/3233/fsusb42-3233259.pdf?src-supplier=Avnet; ComponentLink5Description: https://datasheet.ciiva.com/3233/fsusb42-3233259.pdf?src-supplier=Avnet; ComponentLink6URL: https://datasheet.ciiva.com/6638/fsusb42-6638604.pdf?src-supplier=Digi-Key; ComponentLink6Description: https://datasheet.ciiva.com/6638/fsusb42-6638604.pdf?src-supplier=Digi-Key; ComponentLink7URL: https://datasheet.ciiva.com/6638/fsusb42-6638607.pdf?src-supplier=Digi-Key; ComponentLink7Description: https://datasheet.ciiva.com/6638/fsusb42-6638607.pdf?src-supplier=Digi-Key
footprint QFN40P140X180X55-10N
pins: 1 D+, 2 D-, 3 GND, 4 HSD1-, 5 HSD1+, 6 HSD2-, 7 HSD2+, 8 ~{OE}, 9 VCC, 10 SEL

## Function_Buttons
designator SW_LED?, comment Silicone for RGB  (no BOM)
Silicone button for the RGB LEDS
footprint MATRIX_11X11
pins: 1, 2

## GD25Q64CSIGR
designator U?, comment 64Mb Flash
Integrated Circuit; Manufacturer_Name: GigaDevice; Manufacturer_Part_Number: GD25Q64CSIGR; Datasheet Link: https://www.gigadevice.com/datasheet/gd25q64c/; Height: 2.16mm; Mouser Part Number: 363-GD25Q64CSIGR; Mouser Price/Stock: https://www.mouser.co.uk/ProductDetail/GigaDevice/GD25Q64CSIGR?qs=RcG8xmE7yp10Jy7JYr5cRA%3D%3D
footprint SOIC127P790X216-8N
pins: 1 CS#, 2 SO_(IO1), 3 WP#_(IO2), 4 VSS, 5 SI_(IO0), 6 SCLK, 7 HOLD#_(IO3), 8 VCC

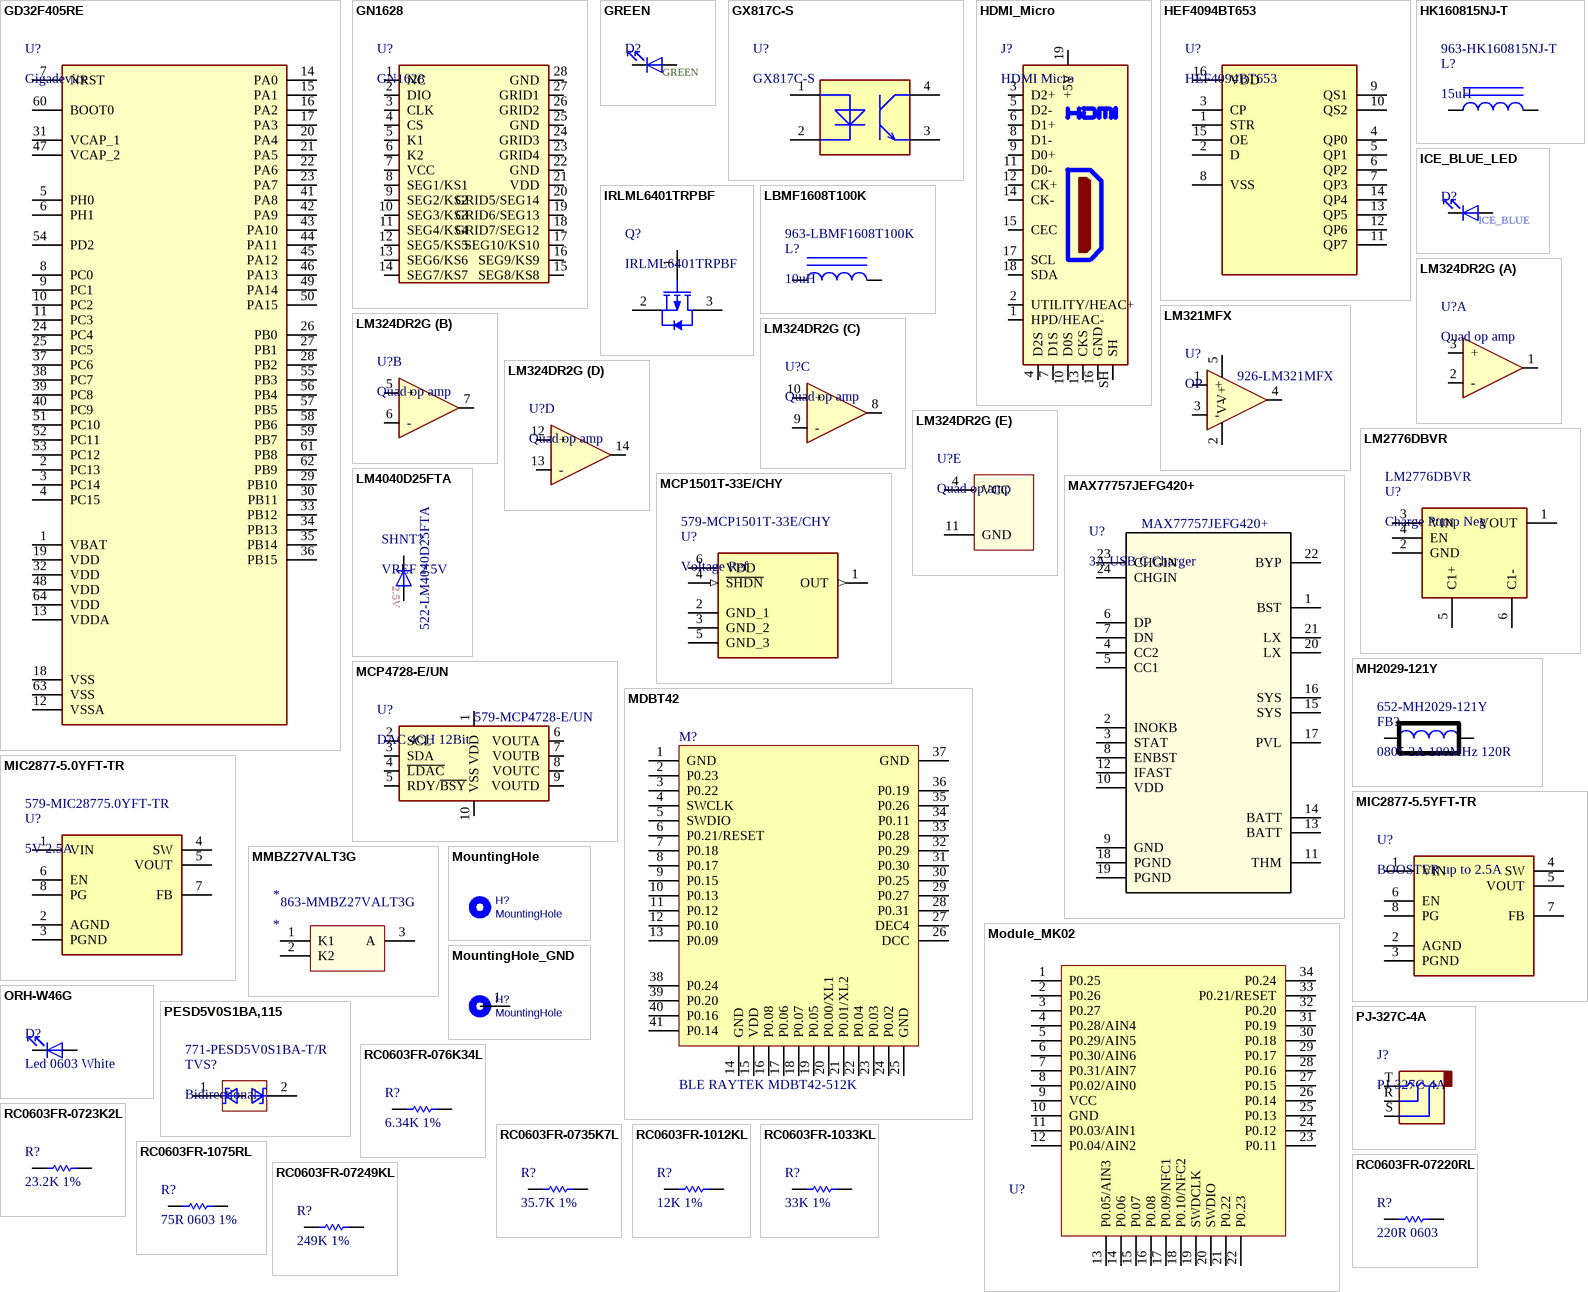
[diagram p1: symbols GD32F405RE to RC0603FR-07249KL]

## GD32F405RE
designator U?, comment Gigadevice
32-Bit FLASH ARM® Cortex®-M4 168MHz 2.6V ~ 3.6V LQFP-64_10x10x05P GigaDevice RoHS; Manufacturer Part Number: GD32F405RE; Supplier 1: LCSC
footprint QFP50P1200X1200X160-64N
pins: 1 VBAT, 2 PC13, 3 PC14, 4 PC15, 5 PH0, 6 PH1, 7 NRST, 8 PC0, 9 PC1, 10 PC2, 11 PC3, 12 VSSA, 13 VDDA, 14 PA0, 15 PA1, 16 PA2, 17 PA3, 18 VSS, 19 VDD, 20 PA4, 21 PA5, 22 PA6, 23 PA7, 24 PC4, 25 PC5, 26 PB0, 27 PB1, 28 PB2, 29 PB10, 30 PB11, 31 VCAP_1, 32 VDD, 33 PB12, 34 PB13, 35 PB14, 36 PB15, 37 PC6, 38 PC7, 39 PC8, 40 PC9, 41 PA8, 42 PA9, 43 PA10, 44 PA11, 45 PA12, 46 PA13, 47 VCAP_2, 48 VDD, 49 PA14, 50 PA15, 51 PC10, 52 PC11, 53 PC12, 54 PD2, 55 PB3, 56 PB4, 57 PB5, 58 PB6, 59 PB7, 60 BOOT0, 61 PB8, 62 PB9, 63 VSS, 64 VDD

## GN1628
designator U?
Driver ICs/LED Drivers; Manufacturer Part Number: C2758329
footprint SOP28-P=0.65
pins: 1 NC, 2 DIO, 3 CLK, 4 CS, 5 K1, 6 K2, 7 VCC, 8 SEG1/KS1, 9 SEG2/KS2, 10 SEG3/KS3, 11 SEG4/KS4, 12 SEG5/KS5, 13 SEG6/KS6, 14 SEG7/KS7, 15 SEG8/KS8, 16 SEG9/KS9, 17 SEG10/KS10, 18 GRID7/SEG12, 19 GRID6/SEG13, 20 GRID5/SEG14, 21 VDD, 22 GND, 23 GRID4, 24 GRID3, 25 GND, 26 GRID2, 27 GRID1, 28 GND

## GREEN
designator D?, comment GREEN 0603  (value not drawn)
Ice Blue 0603 Light Emitting Diodes (LED) RoHS; Manufacturer Part Number: C72043
footprint LED_0603_1608Metric[Green]
pins: 1 K, 2 A

## GX817C-S
designator U?
SOP-4 Optocouplers RoHS; Manufacturer Part Number: C2684625
footprint SOP254P695X242-4N
pins: 1 ANODE, 2 CATHODE, 3 EMITTER, 4 COLLECTOR

## HDMI_Micro
designator J?, comment HDMI Micro
SMD Audio & Video Connectors RoHS; Manufacturer Part Number: C711358
footprint HDMI_Micro-D_Molex_46765-1x01
pins: 1 HPD/HEAC-, 2 UTILITY/HEAC+, 3 D2+, 4 D2S, 5 D2-, 6 D1+, 7 D1S, 8 D1-, 9 D0+, 10 D0S, 11 D0-, 12 CK+, 13 CKS, 14 CK-, 15 CEC, 16 GND, 17 SCL, 18 SDA, 19 +5V, SH

## HEF4094BT653
designator U?
Nexperia HEF4094BT, 653 8-stage Shift Register/Latch, , Uni-Directional, 16-Pin SOIC; Manufacturer: NXP Semiconductors; Logic Function: Shift Register,Latch; Direction: Unidirectional; Propagation Delay: 330ns; Max Supply Voltage: 15V; Number of Elements: 1; Operating Supply Voltage: 12V; Min Supply Voltage: 3V; Number of Output Lines: 10; Number of Bits per Element: 8; Output Type: 3-STATE; Supplier 1: Avnet; Manufacturer Part Number: HEF4094BT653; RoHS: Yes; Category: Shift Registers; Mount: Surface Mount; Case/Package: SO; Number of Pins: 16; Contact Plating: Gold; Min Operating Temperature: -40°C; Max Operating Temperature: 125°C; Packaging: Tape and Reel; Package Quantity: 2500; Number of Circuits: 1; Number of Input Lines: 1; Number of Bits: 8; Turn-On Delay Time: 330ns; Series: 4000B; Number of Functions: 1; Supply Voltage-Nom: 15V; Technology: CMOS; Radiation Hardening: No; REACH SVHC: No SVHC; Lead Free: Lead Free; ComponentLink1URL: https://datasheet.ciiva.com/26866/hef4094bt-653-26866095.pdf?src-supplier=IIIC; ComponentLink1Description: https://datasheet.ciiva.com/26866/hef4094bt-653-26866095.pdf?src-supplier=IIIC; ComponentLink2URL: https://datasheet.ciiva.com/22777/1758129-22777550.pdf?src-supplier=Farnell; ComponentLink2Description: https://datasheet.ciiva.com/22777/1758129-22777550.pdf?src-supplier=Farnell; ComponentLink3URL: https://datasheet.ciiva.com/22627/1758129-22627835.pdf?src-supplier=Element14; ComponentLink3Description: https://datasheet.ciiva.com/22627/1758129-22627835.pdf?src-supplier=Element14; ComponentLink4URL: https://datasheet.ciiva.com/1886/hef4094b-1886017.pdf?src-supplier=Digi-Key; ComponentLink4Description: https://datasheet.ciiva.com/1886/hef4094b-1886017.pdf?src-supplier=Digi-Key; ComponentLink5URL: https://datasheet.ciiva.com/1886/hef4094b-1886019.pdf?src-supplier=Digi-Key; ComponentLink5Description: https://datasheet.ciiva.com/1886/hef4094b-1886019.pdf?src-supplier=Digi-Key; ComponentLink6URL: https://datasheet.ciiva.com/1886/hef4094b-1886021.pdf?src-supplier=Digi-Key; ComponentLink6Description: https://datasheet.ciiva.com/1886/hef4094b-1886021.pdf?src-supplier=Digi-Key; Supplier Part Number 1: HEF4094BT.653
footprint SOIC127P600X175-16N
pins: 1 STR, 2 D, 3 CP, 4 QP0, 5 QP1, 6 QP2, 7 QP3, 8 VSS, 9 QS1, 10 QS2, 11 QP7, 12 QP6, 13 QP5, 14 QP4, 15 OE, 16 VDD

## HK160815NJ-T
designator L?, comment 15uH  Supplier Part Number 1: 963-HK160815NJ-T
TAIYO YUDEN - HK160815NJ-T - High Frequency Inductor, 15 nH, HK Series, 300 mA, 0603 [1608 Metric], Multilayer, 0.32 ohm; Core Material: Ferrite,Ceramic; Inductance: 15nH; Q Factor: 12; Current Rating: 300mA; Shielding: Unshielded; Self Resonant Frequency: 2.3GHz; DC Resistance (DCR): 320mR; Test Frequency: 100MHz; Tolerance: 5%; Supplier 1: Mouser; Manufacturer: Taiyo Yuden; Manufacturer Part Number: HK160815NJ-T; RoHS: Yes; Category: Fixed Inductors; Stock 1: 66858; Pricing 1: 1=0,10000, 10=0,06400, 50=0,06400, 100=0,05400, 1000=0,04300, 10000=0,03100 (USD); Mount: Surface Mount; Case/Package: 0603; Case Code (Metric): 1608; Case Code (Imperial): 0603; Weight: 7.1E-05oz; Min Operating Temperature: -40°C; Max Operating Temperature: 85°C; Packaging: Tape and Reel; Package Quantity: 1; Max DC Current: 300mA; Termination: SMD/SMT; Series: HK; DC Current: 300mA; Inductance Tolerance: 5%; Length: 0.063inch; Width: 0.031inch; Height: 0.8mm; Height - Seated (Max): 0.037inch; Depth: 0.95mm; Radiation Hardening: No; RoHS Compliant: Yes; Military Standard: Not; Lead Free: Lead Free; Halogen Free: Halogen Free; REACH SVHC: Unknown; ComponentLink1URL: https://datasheet.ciiva.com/6688/hk160815nj-t-ss-6688769.pdf?src-supplier=Digi-Key; ComponentLink1Description: https://datasheet.ciiva.com/6688/hk160815nj-t-ss-6688769.pdf?src-supplier=Digi-Key; ComponentLink2URL: https://datasheet.ciiva.com/15986/37hk160815nj-t-15986409.pdf?src-supplier=Onlinecomponents.com; ComponentLink2Description: https://datasheet.ciiva.com/15986/37hk160815nj-t-15986409.pdf?src-supplier=Onlinecomponents.com; ComponentLink3URL: https://datasheet.ciiva.com/26871/getdatasheetpartid-638308-26871666.pdf?src-supplier=Verical; ComponentLink3Description: https://datasheet.ciiva.com/26871/getdatasheetpartid-638308-26871666.pdf?src-supplier=Verical; ComponentLink4URL: https://datasheet.ciiva.com/30054/759hk160815nj-t-30054735.pdf?src-supplier=Onlinecomponents.com; ComponentLink4Description: https://datasheet.ciiva.com/30054/759hk160815nj-t-30054735.pdf?src-supplier=Onlinecomponents.com
footprint L 0603/1608
pins: 1, 2

## ICE_BLUE_LED
designator D?, comment ICE_BLUE 0603  (value not drawn)
Ice Blue 0603 Light Emitting Diodes (LED) RoHS; Manufacturer Part Number: C389522
footprint LED_0603_1608Metric[Blue]
pins: 1 K, 2 A
text: ICE_BLUE

## IRLML6401TRPBF
designator Q?
Trans MOSFET P-CH 12V 4.3A 3-Pin Micro T/R; Manufacturer: International Rectifier; Rise Time: 32ns; Gate to Source Voltage (Vgs): 8V; Turn-On Delay Time: 11ns; Turn-Off Delay Time: 250ns; Fall Time: 210ns; Nominal Vgs: -550mV; Rds On Max: 50mR; Input Capacitance: 830pF; Max Power Dissipation: 1.3W; Number of Elements: 1; Dual Supply Voltage: -12V; Element Configuration: Single; Current Rating: -4.3A; Supplier 1: Mouser; Manufacturer Part Number: IRLML6401TRPBF; RoHS: Yes; Category: MOSFETs; Mount: Surface Mount; Case/Package: TO-236-3; Number of Pins: 3; Min Operating Temperature: -55°C; Max Operating Temperature: 150°C; Continuous Drain Current (ID): 4.3A; Drain to Source Voltage (Vdss): 12V; Packaging: Tape and Reel; Package Quantity: 1; Drain to Source Resistance: 50mR; Power Dissipation: 1.3W; Threshold Voltage: -550mV; Termination: SMD/SMT; Drain to Source Breakdown Voltage: -12V; Voltage Rating (DC): -12V; On-State Resistance: 50mR; Series: HEXFET®; Length: 3.04mm; Width: 1.4mm; Height: 1.02mm; Radiation Hardening: No; RoHS Compliant: Yes; Lead Free: Lead Free; REACH SVHC: No SVHC; ComponentLink1URL: https://datasheet.ciiva.com/6131/irlml6401-6131072.pdf?src-supplier=Farnell; ComponentLink1Description: https://datasheet.ciiva.com/6131/irlml6401-6131072.pdf?src-supplier=Farnell; ComponentLink2URL: https://datasheet.ciiva.com/34302/1563711-34302499.pdf?src-supplier=Jameco; ComponentLink2Description: https://datasheet.ciiva.com/34302/1563711-34302499.pdf?src-supplier=Jameco; ComponentLink3URL: https://datasheet.ciiva.com/6383/irlml6401pbf-6383328.pdf?src-supplier=Digi-Key; ComponentLink3Description: https://datasheet.ciiva.com/6383/irlml6401pbf-6383328.pdf?src-supplier=Digi-Key; ComponentLink4URL: https://datasheet.ciiva.com/6383/irlml6401pbf-6383326.pdf?src-supplier=Digi-Key; ComponentLink4Description: https://datasheet.ciiva.com/6383/irlml6401pbf-6383326.pdf?src-supplier=Digi-Key; Supplier Part Number 1: 942-IRLML6401TRPBF
footprint SOT-23-3 (SOT23, 3-Leads, Body 2.92x1.3mm, Pitch 0.95mm)
pins: 1 G, 2 S, 3 D

## LBMF1608T100K
designator L?, comment 10uH  Supplier Part Number 1: 963-LBMF1608T100K
LBMF1608T100K; Manufacturer: Taiyo Yuden; Core Material: Ferrite; Self Resonant Frequency: 32MHz; Shielding: Unshielded; DC Resistance (DCR): 360mR; Test Frequency: 2.52MHz; Max DC Current: 80mA; Tolerance: 10%; Supplier 1: Mouser; Manufacturer Part Number: LBMF1608T100K; RoHS: Yes; Category: Fixed Inductors; Stock 1: 240378; Pricing 1: 1=0,25000, 10=0,16900, 50=0,16900, 100=0,13700, 1000=0,10000, 10000=0,08000 (USD); Mount: Surface Mount; Case/Package: 0603; Case Code (Metric): 1608; Case Code (Imperial): 0603; Weight: 7.1E-05oz; Min Operating Temperature: -40°C; Max Operating Temperature: 105°C; Packaging: Tape and Reel; Inductance: 10uH; Termination: SMD/SMT; Package Quantity: 3000; Current Rating: 80mA; DC Current: 80mA; Series: LB; Inductance Tolerance: 10%; Resistor Type: Wirewound; Length: 0.063inch; Width: 0.031inch; Height: 0.35mm; Height - Seated (Max): 0.039inch; Depth: 0.9mm; Lead Pitch: 0.7mm; Radiation Hardening: No; Lead Free: Lead Free; Military Standard: Not; REACH SVHC: Unknown; Halogen Free: Halogen Free; RoHS Compliant: Yes; ComponentLink1URL: https://datasheet.ciiva.com/8504/lbmf1608t100k-ss-8504740.pdf?src-supplier=Avnet; ComponentLink1Description: https://datasheet.ciiva.com/8504/lbmf1608t100k-ss-8504740.pdf?src-supplier=Avnet; ComponentLink2URL: https://datasheet.ciiva.com/26872/getdatasheetpartid-637440-26872437.pdf?src-supplier=Verical; ComponentLink2Description: https://datasheet.ciiva.com/26872/getdatasheetpartid-637440-26872437.pdf?src-supplier=Verical; ComponentLink3URL: https://datasheet.ciiva.com/1040/lbmf1608t100k-ss-1040360.pdf?src-supplier=Digi-Key; ComponentLink3Description: https://datasheet.ciiva.com/1040/lbmf1608t100k-ss-1040360.pdf?src-supplier=Digi-Key; ComponentLink4URL: https://datasheet.ciiva.com/15986/610lbmf1608t100k-15986589.pdf?src-supplier=Onlinecomponents.com; ComponentLink4Description: https://datasheet.ciiva.com/15986/610lbmf1608t100k-15986589.pdf?src-supplier=Onlinecomponents.com; ComponentLink5URL: https://datasheet.ciiva.com/46395/1497259-46395174.pdf?src-supplier=Element14; ComponentLink5Description: https://datasheet.ciiva.com/46395/1497259-46395174.pdf?src-supplier=Element14
footprint L 0603/1608
pins: 1, 2

## LM321MFX
designator U?, comment OP  Supplier Part Number 1: 926-LM321MFX
IC,Operational Amplifier,SINGLE,BIPOLAR,TSOP,5PIN,PLASTIC ;RoHS Compliant: No; Manufacturer: TI National Semiconductor; Manufacturer Part Number: LM321MFX; Min Supply Voltage: 3V; Max Supply Voltage: 30V; Min Dual Supply Voltage: 1.5V; Max Dual Supply Voltage: 15V; Voltage Gain: 100dB; Common Mode Rejection Ratio: 65dB; Number of Channels: 1; Output Current: 40mA; Slew Rate: 0.4V/µs; Nominal Supply Current: 1.15mA; Unity Gain Bandwidth Product: 1MHz; Input Offset Voltage (Vos): 7mV; Input Bias Current: 250nA; Operating Supply Current: 660uA; Operating Supply Voltage: 16V; Supplier 1: Mouser; RoHS: No; Category: Amplifiers - Op Amps, Buffer, Instrumentation; Pricing 1: 1=1,22000, 10=1,10000, 50=1,04000, 100=0,85400, 1000=0,55700, 10000=0,48900 (USD); Mount: Surface Mount; Case/Package: SOT-23-5; Number of Pins: 5; Min Operating Temperature: -40°C; Max Operating Temperature: 85°C; Packaging: Tape and Reel; Package Quantity: 3000; Gain Bandwidth Product: 1MHz; Number of Circuits: 1; Output Current per Channel: 40mA; Number of Elements: 1; Power Supply Rejection Ratio (PSRR): 65dB; Radiation Hardening: No; Lead Free: Contains Lead; ComponentLink1URL: https://datasheet.ciiva.com/6629/lm321-6629349.pdf?src-supplier=Digi-Key; ComponentLink1Description: https://datasheet.ciiva.com/6629/lm321-6629349.pdf?src-supplier=Digi-Key; ComponentLink2URL: https://datasheet.ciiva.com/6629/lm321-6629350.pdf?src-supplier=Digi-Key; ComponentLink2Description: https://datasheet.ciiva.com/6629/lm321-6629350.pdf?src-supplier=Digi-Key; ComponentLink3URL: https://datasheet.ciiva.com/6629/lm321-6629351.pdf?src-supplier=Digi-Key; ComponentLink3Description: https://datasheet.ciiva.com/6629/lm321-6629351.pdf?src-supplier=Digi-Key
footprint SOT-23-5 (SOT23, 3-Leads, Body 2.92x1.3mm, Pitch 0.95mm)
pins: 1 +, 2 V-, 3 -, 4, 5 V+